# Altium schematic symbol library PIC16F18346.SchLib: 1 symbol
Pins are listed as number, name and electrical type; pins without a type are passive.

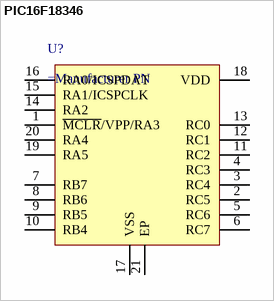
[diagram p0: symbol PIC16F18346]

## PIC16F18346
designator U?
PIC16F 8-bit Microcontroller
pins: 1 ~{MCLR}/VPP/RA3, 2 RC5, 3 RC4, 4 RC3, 5 RC6, 6 RC7, 7 RB7, 8 RB6, 9 RB5, 10 RB4, 11 RC2, 12 RC1, 13 RC0, 14 RA2, 15 RA1/ICSPCLK, 16 RA0/ICSPDAT, 17 VSS, 18 VDD, 19 RA5, 20 RA4, 21 EP